# EAGLE library part ATSAMICE_CONN (library SamacSys_Parts)
CONN HEADER 10POS DUAL .05" SMD Source: Datasheet <http://suddendocs.samtec.com/prints/ftsh-1xx-xx-xxx-dv-xxx-xxx-mkt.pdf>
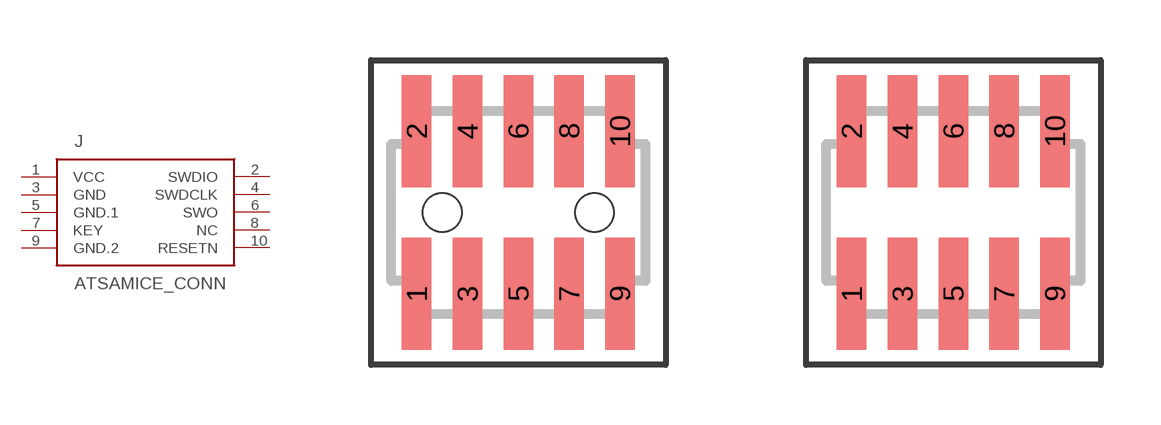
[diagram p1: symbol with the pads of FTSH-105-01-L-DV-K-A-P; footprints FTSH-105-01-L-DV-K-A-P, FTSH-105-01-L-DV-K]

Designator prefix J

## ATSAMICE_CONN (ARROW_PART_NUMBER: FTSH-105-01-L-DV-K-A-P; ARROW_PRICE/STOCK: https://www.arrow.com/en/products/ftsh-105-01-l-dv-k-a-p/samtec; DESCRIPTION: CONN HEADER 10POS DUAL .05" SMD; HEIGHT: mm; MANUFACTURER_NAME: SAMTEC; MANUFACTURER_PART_NUMBER: FTSH-105-01-L-DV-K-A-P)  [FTSH-105-01-L-DV-K-A-P]
1  VCC
2  SWDIO
3  GND
4  SWDCLK
5  GND.1
6  SWO
7  KEY
8  NC
9  GND.2
10  RESETN

## ATSAMICE_CONN05-01-L-DV-K  [FTSH-105-01-L-DV-K]
Pads as for FTSH-105-01-L-DV-K-A-P

## Footprint FTSH-105-01-L-DV-K-A-P (pad centres in mm)
FTSH-105-01-L-DV-K-A-P
smd 0.737 x 2.794: 1 -2.54,-2.032; 2 -2.54,2.032; 3 -1.27,-2.032; 4 -1.27,2.032; 5 0,-2.032; 6 0,2.032; 7 1.27,-2.032; 8 1.27,2.032; 9 2.54,-2.032; 10 2.54,2.032
hole 0.97 at -1.905,0
hole 0.97 at 1.905,0

## Footprint FTSH-105-01-L-DV-K (pad centres in mm)
FTSH-105-01-L-DV-K-A-P
smd 0.737 x 2.794: 1 -2.54,-2.032; 2 -2.54,2.032; 3 -1.27,-2.032; 4 -1.27,2.032; 5 0,-2.032; 6 0,2.032; 7 1.27,-2.032; 8 1.27,2.032; 9 2.54,-2.032; 10 2.54,2.032